# EAGLE library part MIC4128 (library MIC412x)
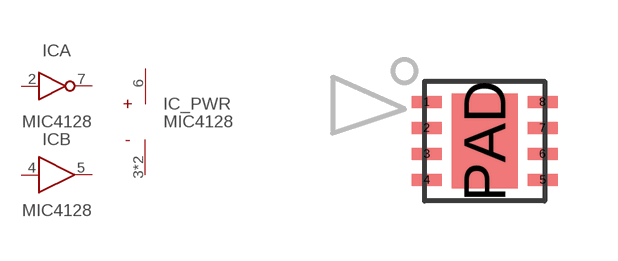
[diagram p2: symbol with the pads of DFN-8-3X3-0.5; footprint DFN-8-3X3-0.5]

Designator prefix IC; gates _PWR=PWR B=GATE_DRIVER A=INV_GATE_DRIVER

## MIC4128YML  [DFN-8-3X3-0.5]
2  A:IN  in
3  _PWR:GND  pwr
4  B:IN  in
5  B:OUT  out
6  _PWR:VDD  pwr
7  A:OUT  out
PAD  _PWR:GND  pwr

## Footprint DFN-8-3X3-0.5 (pad centres in mm)
smd 0.75 x 0.3: 1 -1.45,0.975; 2 -1.45,0.325; 3 -1.45,-0.325; 4 -1.45,-0.975; 5 1.45,-0.975; 6 1.45,-0.325; 7 1.45,0.325; 8 1.45,0.975
smd 1.65 x 2.38: PAD 0,0